# Altium footprint library EButterflyPcbLib.PcbLib: 106 footprints (part 5 of 7)
Each footprint in its own frame and in the unit in brackets; x right, y up, seen from the top. Pads: shape width x height; smd on the part's side, far side on the other; paste and mask are expansions set on the pad; w line width, h text height; cw(c..) or ccw(c..) is an arc to the next point about the centre after c.
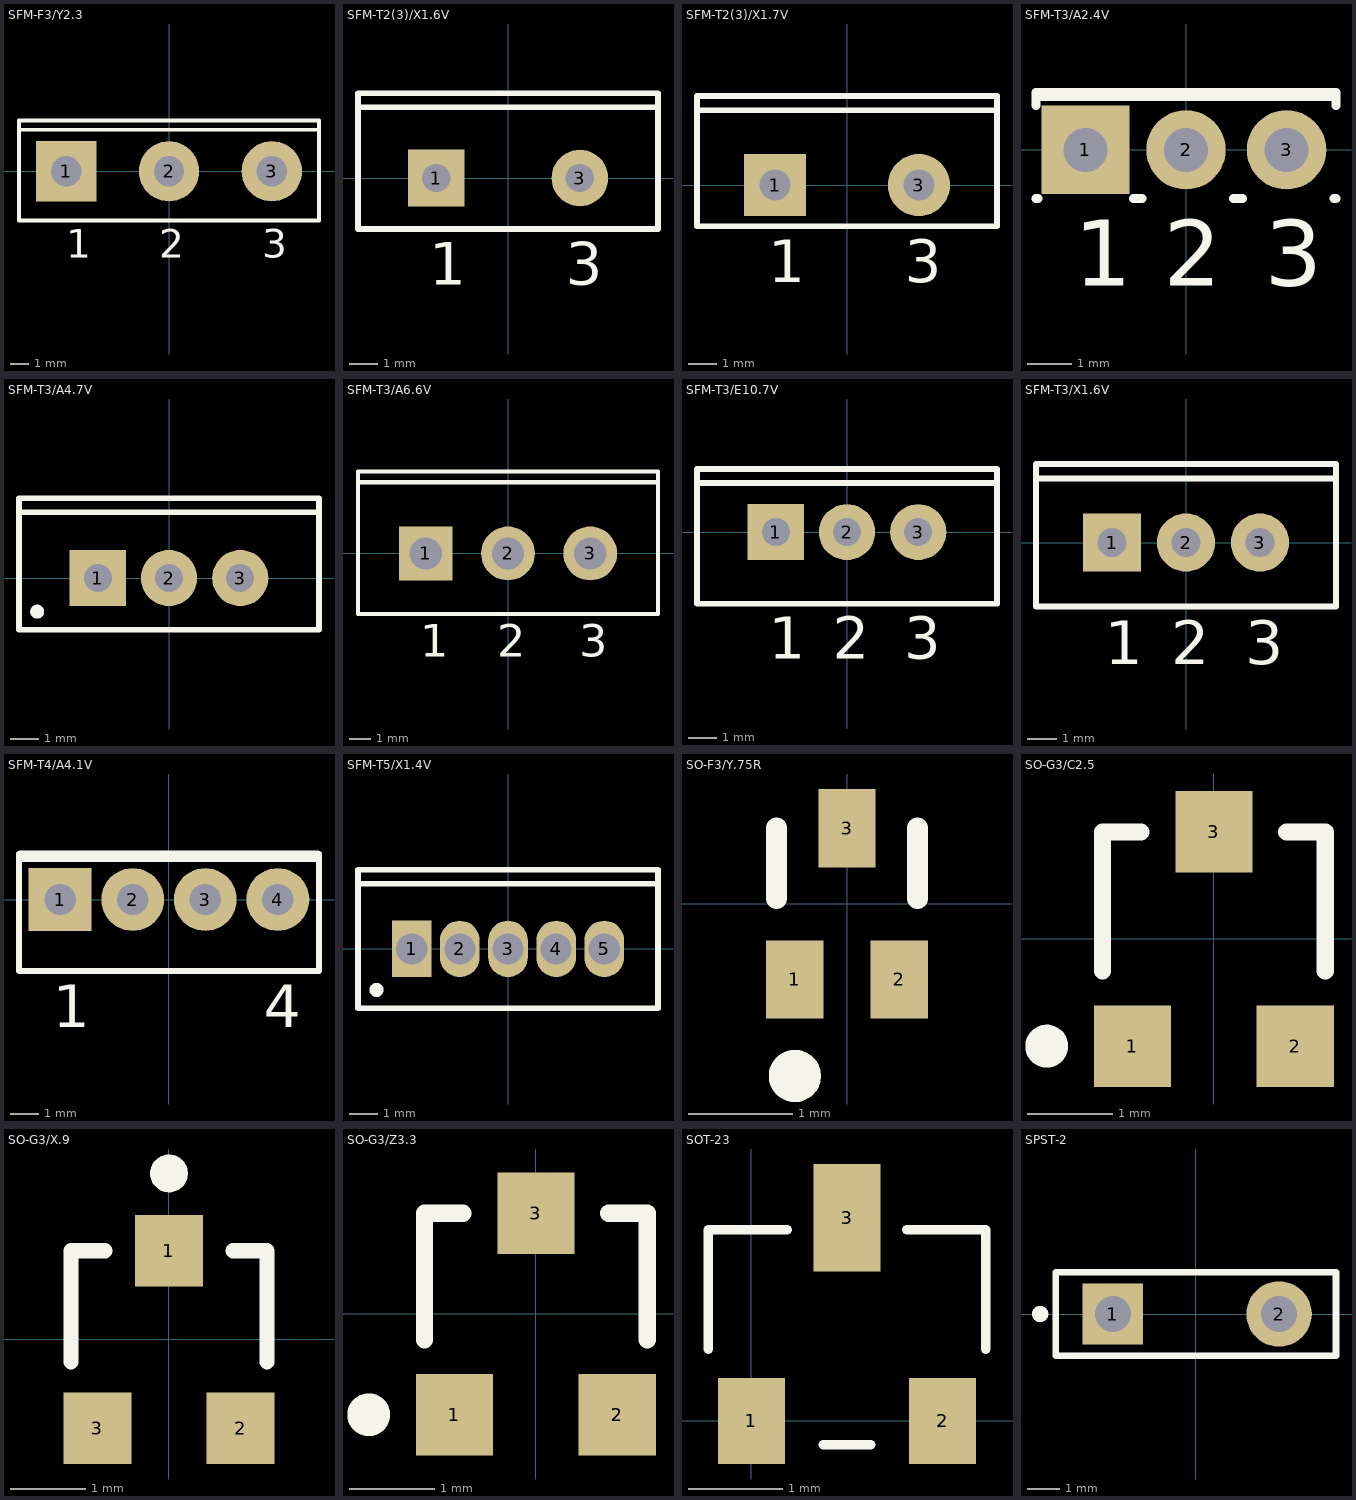
[diagram p4: the footprints below, top view; thin cyan lines are the x and y axes]

## SFM-F3/Y2.3 [mm] "SIP with Mounting Hole; 3 Leads; Body 20 x 15.6 x 5 mm (typ); Pitch 5.45 mm"
height 24.6
pads (3):
  rect 3.2x3.2 hole 1.6: 1(-5.45,0)
  round 3.2 hole 1.6: 2(0,0) 3(5.45,0)
Top Overlay:
  lines w0.2: -7.95,2.2 7.95,2.2 ; -7.95,-2.6 7.95,-2.6 7.95,2.7 -7.95,2.7 -7.95,-2.6
  text "1" at -5.45,-4.575 h1.5
  text "2" at -0.508,-4.575 h1.5
  text "3" at 4.942,-4.575 h1.5

## SFM-T2(3)/X1.6V [mm] "TO, Thru-Hole, Vertical, Heatsink Mounted; 3 In-Line Leads (1 Absent); Pitch 2.54 mm"
height 19.3
pads (2):
  rect 2x2 hole 1: 1(-2.54,0)
  round 2 hole 1: 3(2.54,0)
Top Overlay:
  lines w0.2: -5.3,2.5 5.3,2.5 ; -5.3,-1.8 5.3,-1.8 5.3,3 -5.3,3 -5.3,-1.8
  text "3" at 2.04,-3.775 h1.5
  text "1" at -2.79,-3.775 h1.5

## SFM-T2(3)/X1.7V [mm] "TO, Thru-Hole, Vertical, Heatsink Mounted; 3 In-Line Leads (1 Absent); Pitch 2.54 mm"
height 19.2
pads (2):
  rect 2.2x2.2 hole 1.1: 1(-2.54,0)
  round 2.2 hole 1.1: 3(2.54,0)
Top Overlay:
  lines w0.2: -5.3,2.65 5.3,2.65 ; -5.3,-1.45 5.3,-1.45 5.3,3.15 -5.3,3.15 -5.3,-1.45
  text "1" at -2.79,-3.425 h1.5
  text "3" at 2.04,-3.425 h1.5

## SFM-T3/A2.4V [mm] "TO, Thru-Hole, Vertical, Heatsink Mounted; 3 In-Line Leads; Pitch 2.28 mm"
height 9.7
pads (3):
  rect 2x2 hole 1: 1(-2.28,0)
  round 1.8 hole 1: 2(0,0) 3(2.28,0)
Top Overlay:
  lines w0.2: -3.4,-1.1 -3.35,-1.1 ; -3.4,1 -3.4,1.3 3.4,1.3 3.4,1 ; -3.4,1.21 3.4,1.21 ; -1.19,-1.1 -0.99,-1.1 ; 1.08,-1.1 1.28,-1.1 ; 3.35,-1.1 3.4,-1.1
  text "3" at 1.78,-3.075 h1.5
  text "2" at -0.5,-3.075 h1.5
  text "1" at -2.53,-3.075 h1.5

## SFM-T3/A4.7V [mm] "TO, Thru-Hole, Vertical, Heatsink Mounted; 3 In-Line Leads; Pitch 2.54 mm"
height 19.3
pads (3):
  rect 2x2 hole 1: 1(-2.54,0)
  round 2 hole 1: 2(0,0) 3(2.54,0)
Top Overlay:
  circle w0.25: c-4.7,-1.2 r0.125
  lines w0.2: -5.35,2.35 5.35,2.35 ; -5.35,-1.85 5.35,-1.85 5.35,2.85 -5.35,2.85 -5.35,-1.85
Mechanical 13:
  lines w0.1: -5.35,2.35 5.35,2.35 ; -5.35,-1.85 -5.35,2.85 5.35,2.85 5.35,-1.85 -5.35,-1.85
Mechanical 15:
  lines w0.1: -0.5,0 0.5,0 ; 0,-0.5 0,0.5
3D body: height 19.3, standoff 12.9, extent -5.349,2.351 5.349,2.849
3D body: height 12.9, standoff 4, extent -5.4,-1.9 5.4,2.9

## SFM-T3/A6.6V [mm] "TO, Thru-Hole, Vertical, Heatsink Mounted; 3 In-Line Leads; Pitch 3.81 mm"
height 20.3
pads (3):
  rect 2.5x2.5 hole 1.5: 1(-3.81,0)
  round 2.5 hole 1.5: 2(0,0) 3(3.81,0)
Top Overlay:
  lines w0.2: -6.95,3.3 6.95,3.3 ; -6.95,-2.8 -6.95,3.8 6.95,3.8 6.95,-2.8 -6.95,-2.8
  text "3" at 3.31,-4.775 h1.5
  text "2" at -0.5,-4.775 h1.5
  text "1" at -4.06,-4.775 h1.5

## SFM-T3/E10.7V [mm] "TO, Thru-Hole, Vertical, Heatsink Mounted; 3 In-Line Leads; Pitch 2.54 mm"
height 19.1
pads (3):
  rect 2x2 hole 1: 1(-2.54,0)
  round 2 hole 1: 2(0,0) 3(2.54,0)
Top Overlay:
  lines w0.2: -5.35,1.75 5.35,1.75 ; -5.35,-2.55 -5.35,2.25 5.35,2.25 5.35,-2.55 -5.35,-2.55
  text "3" at 2.04,-4.525 h1.5
  text "2" at -0.5,-4.525 h1.5
  text "1" at -2.79,-4.525 h1.5

## SFM-T3/X1.6V [mm] "TO, Thru-Hole, Vertical, Heatsink Mounted; 3 In-Line Leads; Pitch 2.54 mm"
height 19.7
pads (3):
  rect 2x2 hole 1: 1(-2.54,0)
  round 2 hole 1: 2(0,0) 3(2.54,0)
Top Overlay:
  lines w0.2: -5.15,2.2 5.15,2.2 ; -5.15,-2.2 5.15,-2.2 5.15,2.7 -5.15,2.7 -5.15,-2.2
  text "1" at -2.79,-4.175 h1.5
  text "2" at -0.5,-4.175 h1.5
  text "3" at 2.04,-4.175 h1.5

## SFM-T4/A4.1V [mm] "TO, Thru-Hole, Vertical, Heatsink Mounted; 4 In-Line Leads; Pitch 2.54 mm"
height 20.6
pads (4):
  rect 2.2x2.2 hole 1.1: 1(-3.81,0)
  round 2.2 hole 1.1: 2(-1.27,0) 3(1.27,0) 4(3.81,0)
Top Overlay:
  rectangle: -5.25,1.311 5.25,1.711
  lines w0.2: -5.25,1.6 -5.25,-2.5 5.25,-2.5 5.25,1.6
  text "4" at 3.31,-4.475 h1.5
  text "1" at -4.06,-4.475 h1.5

## SFM-T5/X1.4V [mm] "TO, Thru-Hole, Vertical, Heatsink Mounted; 5 In-Line Leads; Pitch 1.70 mm"
height 15.9
pads (5):
  rect 1.4x2 hole 1.1: 1(-3.4,0)
  oval 1.4x2 hole 1.1: 2(-1.7,0) 3(0,0) 4(1.7,0) 5(3.4,0)
Top Overlay:
  circle w0.25: c-4.65,-1.45 r0.125
  lines w0.2: -5.3,2.3 5.3,2.3 ; -5.3,-2.1 -5.3,2.8 5.3,2.8 5.3,-2.1 -5.3,-2.1
Mechanical 13:
  lines w0.1: -5.3,2.3 5.3,2.3 ; -5.3,-2.1 5.3,-2.1 5.3,2.8 -5.3,2.8 -5.3,-2.1 ; -3.91,-0.28 -2.89,-0.28 -2.89,0.28 -3.91,0.28 -3.91,-0.28 ; -2.21,-0.28 -1.19,-0.28 -1.19,0.28 -2.21,0.28 -2.21,-0.28 ; -0.51,-0.28 0.51,-0.28 0.51,0.28 -0.51,0.28 -0.51,-0.28 ; 1.19,-0.28 2.21,-0.28 2.21,0.28 1.19,0.28 1.19,-0.28 ; 2.89,-0.28 3.91,-0.28 3.91,0.28 2.89,0.28 2.89,-0.28
Mechanical 15:
  lines w0.1: -0.5,0 0.5,0 ; 0,-0.5 0,0.5
3D body: height 4.1, standoff 0, extent -3.909,-0.279 -2.891,0.279
3D body: height 4.1, standoff 0, extent -2.209,-0.279 -1.191,0.279
3D body: height 4.1, standoff 0, extent 1.191,-0.279 2.209,0.279
3D body: height 4.1, standoff 0, extent 2.891,-0.279 3.909,0.279
3D body: height 4.1, standoff 0, extent -0.509,-0.279 0.509,0.279
3D body: height 15.9, standoff 13, extent -5.299,2.301 5.299,2.799
3D body: height 13, standoff 4.1, extent -5.35,-2.15 5.35,2.85

## SO-F3/Y.75R [mm]
pads (3):
  rect 0.55x0.75 smd: 1(-0.5,-0.725) 2(0.5,-0.725) 3(0,0.725)
Top Overlay:
  circle w0.25: c-0.5,-1.65 r0.125
  lines w0.2: -0.676,0.05 -0.676,0.725 ; 0.675,0.05 0.675,0.725

## SO-G3/C2.5 [mm]
pads (3):
  rect 0.9x0.95 smd: 1(-0.95,-1.25) 2(0.95,-1.25) 3(0,1.25)
Top Overlay:
  circle w0.25: c-1.95,-1.25 r0.125
  lines w0.2: -1.3,-0.375 -1.3,1.25 -0.85,1.25 ; 0.85,1.25 1.3,1.25 1.3,-0.375
3D body: height 1.2, standoff 0, extent -1.45,-1.4 1.45,1.4

## SO-G3/X.9 [mm]
pads (3):
  rect 0.9x0.95 smd: 1(0,1.175) 2(0.95,-1.175) 3(-0.95,-1.175)
Top Overlay:
  circle w0.25: c0,2.2 r0.125
  lines w0.2: -1.3,-0.3 -1.3,1.175 -0.85,1.175 ; 0.85,1.175 1.3,1.175 1.3,-0.3
3D body: height 1.2, standoff 0, extent -1.45,-1.4 1.45,1.4

## SO-G3/Z3.3 [mm]
pads (3):
  rect 0.9x0.95 smd: 1(-0.95,-1.175) 2(0.95,-1.175) 3(0,1.175)
Top Overlay:
  circle w0.25: c-1.95,-1.175 r0.125
  lines w0.2: -1.3,-0.3 -1.3,1.175 -0.85,1.175 ; 0.85,1.175 1.3,1.175 1.3,-0.3
3D body: height 1.2, standoff 0, extent -1.45,-1.4 1.45,1.4

## SOT-23 [mil]
pads (3):
  rect 28x36 smd: 1(0,0) 2(80,0)
  rect 28x45 smd: 3(40,85)
Top Overlay:
  lines w4: -18,30 -18,80 15,80 ; 30,-10 50,-10 ; 65,80 98,80 98,30
3D body: height 47.24, standoff 0, extent -17.08,-25.11 97.09,85.12

## SPST-2 [mm] "Circuit Breaker; 2 Leads"
pads (2):
  rect 1.85x1.85 hole 1.1: 1(-2.54,0)
  round 2 hole 1.1: 2(2.54,0)
Top Overlay:
  circle w0.25: c-4.761,-0.001 r0.125
  lines w0.2: -4.28,-1.27 -4.28,1.27 4.28,1.27 4.28,-1.27 -4.28,-1.27